# Altium schematic symbol library OR_Gate.SchLib: 1 symbol
Pins are listed as number, name and electrical type; pins without a type are passive.

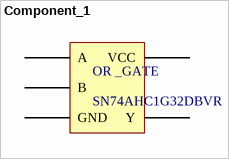
[diagram p0: symbol Component_1]

## Component_1
designator OR _GATE, comment SN74AHC1G32DBVR
footprint SN74AHC1G32DBVR
pins: 1 A, 2 B, 3 GND, 4 Y, 5 VCC